# Altium footprint library con-molex-micro-fit-3_0 (1).PCBLIB: 194 footprints (part 2 of 13)
Each footprint in its own frame and in the unit in brackets; x right, y up, seen from the top. Pads: shape width x height; smd on the part's side, far side on the other; paste and mask are expansions set on the pad; w line width, h text height; cw(c..) or ccw(c..) is an arc to the next point about the centre after c.
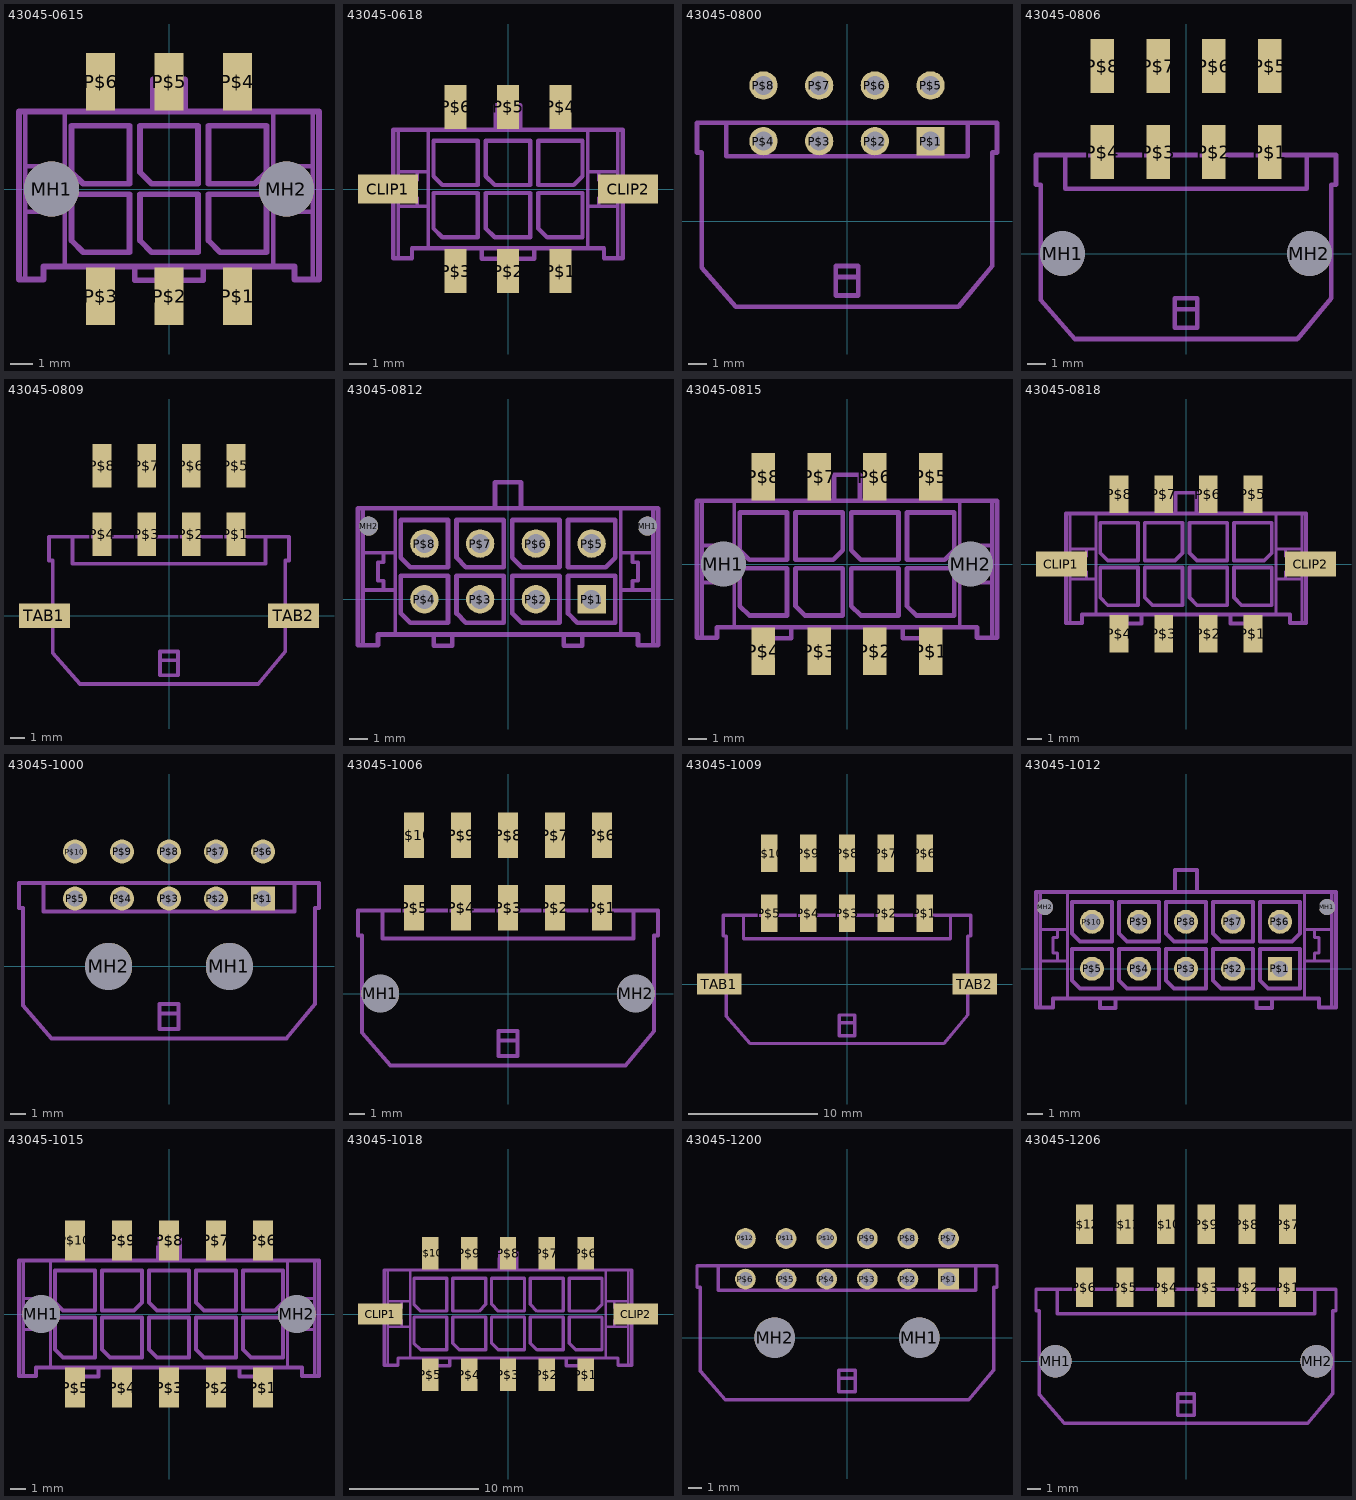
[diagram p1: the footprints below, top view; thin cyan lines are the x and y axes]

## 43045-0615 [mm]
pads (8):
  round 2.41 hole 2.41 unplated: MH1(-5.15,0) MH2(5.15,0)
  rect 1.27x2.54 smd: P$1(3,-4.7) P$2(0,-4.7) P$3(-3,-4.7) P$4(3,4.7) P$5(0,4.7) P$6(-3,4.7)
tPlace:
  lines w0.2: -6.3,-3.97 -6.3,-1 ; -6.3,3.4 -6.3,1 ; -4.57,-3.4 -4.57,-1 ; -4.57,3.4 -4.57,1 ; 4.57,-3.4 4.57,-1 ; 4.57,3.4 4.57,1 ; 6.3,-3.97 6.3,-1 ; 6.3,3.4 6.3,1 ; -6.3,-1 -6.3,1 ; -6.3,-1 -5.2,-1 ; -6.3,1 -5.2,1 ; -5.2,-1 -4.57,-1 ; -5.2,-1 -5.2,-0.5 -5.5,-0.5 -5.5,0.5 -5.2,0.5 -5.2,1 ; -5.2,1 -4.57,1 ; -4.57,-1 -4.57,1 ; 4.57,-1 4.57,1 ; 4.57,-1 5.2,-1 ; 4.57,1 5.2,1 ; 5.2,-1 6.3,-1 ; 5.2,-1 5.2,-0.5 5.5,-0.5 5.5,0.5 5.2,0.5 5.2,1 ; 5.2,1 6.3,1 ; 6.3,-1 6.3,1
  lines w0.254: -1.5,-3.4 -0.5,-3.4 ; -1.5,-3.4 -4.57,-3.4 -5.5,-3.4 -5.5,-3.97 -6.3,-3.97 -6.575,-3.97 -6.575,3.4 -6.3,3.4 -4.57,3.4 -0.7,3.4 ; -1.5,-3.4 -1.5,-4 -0.5,-4 -0.5,-3.4 ; -0.7,3.4 0.7,3.4 ; -0.7,3.4 -0.7,4.8 0.7,4.8 0.7,3.4 ; -0.5,-3.4 0.5,-3.4 ; 0.5,-3.4 1.5,-3.4 ; 0.5,-3.4 0.5,-4 1.5,-4 1.5,-3.4 ; 0.7,3.4 4.57,3.4 6.3,3.4 6.575,3.4 6.575,-3.97 6.3,-3.97 5.5,-3.97 5.5,-3.4 4.57,-3.4 1.5,-3.4 ; -4.27,-2.262 -4.27,-0.23 -1.73,-0.23 -1.73,-2.77 -3.762,-2.77 -4.27,-2.262 ; -4.27,0.738 -4.27,2.77 -1.73,2.77 -1.73,0.23 -3.762,0.23 -4.27,0.738 ; -1.27,-2.262 -1.27,-0.23 1.27,-0.23 1.27,-2.77 -0.762,-2.77 -1.27,-2.262 ; -1.27,0.738 -1.27,2.77 1.27,2.77 1.27,0.23 -0.762,0.23 -1.27,0.738 ; 1.73,-2.262 1.73,-0.23 4.27,-0.23 4.27,-2.77 2.238,-2.77 1.73,-2.262
bPlace:
  lines w0.254: 1.73,0.23 1.73,2.77 4.27,2.77 4.27,0.738 3.762,0.23 1.73,0.23

## 43045-0618 [mm]
pads (8):
  rect 3.43x1.65 smd: CLIP1(-6.88,0) CLIP2(6.88,0)
  rect 1.27x2.54 smd: P$1(3,-4.7) P$2(0,-4.7) P$3(-3,-4.7) P$4(3,4.7) P$5(0,4.7) P$6(-3,4.7)
tPlace:
  lines w0.2: -6.3,-3.97 -6.3,-1 ; -6.3,3.4 -6.3,1 ; -4.57,-3.4 -4.57,-1 ; -4.57,3.4 -4.57,1 ; 4.57,-3.4 4.57,-1 ; 4.57,3.4 4.57,1 ; 6.3,-3.97 6.3,-1 ; 6.3,3.4 6.3,1 ; -6.3,-1 -6.3,1 ; -6.3,-1 -5.2,-1 ; -6.3,1 -5.2,1 ; -5.2,-1 -4.57,-1 ; -5.2,-1 -5.2,-0.5 -5.5,-0.5 -5.5,0.5 -5.2,0.5 -5.2,1 ; -5.2,1 -4.57,1 ; -4.57,-1 -4.57,1 ; 4.57,-1 4.57,1 ; 4.57,-1 5.2,-1 ; 4.57,1 5.2,1 ; 5.2,-1 6.3,-1 ; 5.2,-1 5.2,-0.5 5.5,-0.5 5.5,0.5 5.2,0.5 5.2,1 ; 5.2,1 6.3,1 ; 6.3,-1 6.3,1
  lines w0.254: -1.5,-3.4 -0.5,-3.4 ; -1.5,-3.4 -4.57,-3.4 -5.5,-3.4 -5.5,-3.97 -6.3,-3.97 -6.575,-3.97 -6.575,3.4 -6.3,3.4 -4.57,3.4 -0.7,3.4 ; -1.5,-3.4 -1.5,-4 -0.5,-4 -0.5,-3.4 ; -0.7,3.4 0.7,3.4 ; -0.7,3.4 -0.7,4.8 0.7,4.8 0.7,3.4 ; -0.5,-3.4 0.5,-3.4 ; 0.5,-3.4 1.5,-3.4 ; 0.5,-3.4 0.5,-4 1.5,-4 1.5,-3.4 ; 0.7,3.4 4.57,3.4 6.3,3.4 6.575,3.4 6.575,-3.97 6.3,-3.97 5.5,-3.97 5.5,-3.4 4.57,-3.4 1.5,-3.4 ; -4.27,-2.262 -4.27,-0.23 -1.73,-0.23 -1.73,-2.77 -3.762,-2.77 -4.27,-2.262 ; -4.27,0.738 -4.27,2.77 -1.73,2.77 -1.73,0.23 -3.762,0.23 -4.27,0.738 ; -1.27,-2.262 -1.27,-0.23 1.27,-0.23 1.27,-2.77 -0.762,-2.77 -1.27,-2.262 ; -1.27,0.738 -1.27,2.77 1.27,2.77 1.27,0.23 -0.762,0.23 -1.27,0.738 ; 1.73,-2.262 1.73,-0.23 4.27,-0.23 4.27,-2.77 2.238,-2.77 1.73,-2.262
bPlace:
  lines w0.254: 1.73,0.23 1.73,2.77 4.27,2.77 4.27,0.738 3.762,0.23 1.73,0.23

## 43045-0800 [mm]
pads (8):
  rect 1.53x1.53 / inner round 1.414 / far side rect 1.53x1.53 hole 1.02: P$1(4.5,4.32)
  round 1.53 hole 1.02: P$2(1.5,4.32) P$3(-1.5,4.32) P$4(-4.5,4.32) P$5(4.5,7.32) P$6(1.5,7.32) P$7(-1.5,7.32) P$8(-4.5,7.32)
bPlace:
  lines w0.127: -6.5,5.31 -4.825,5.31
  lines w0.254: -6.5,5.31 -8.08,5.31 -8.08,3.71 -7.825,3.71 -7.825,-2.5 -6,-4.6 6,-4.6 7.825,-2.4 7.825,3.71 8.08,3.71 8.08,5.31 6.5,5.31 ; -6.5,5.31 6.5,5.31 ; -6.5,5.31 -6.5,3.5 6.5,3.5 6.5,5.31 ; -0.6,-3 -0.6,-4 0.6,-4 0.6,-3 ; -0.6,-3 -0.6,-2.4 0.6,-2.4 0.6,-3 ; -0.6,-3 0.6,-3

## 43045-0806 [mm]
pads (10):
  round 2.41 hole 2.41 unplated: MH1(-6.65,0) MH2(6.65,0)
  rect 1.27x2.92 smd: P$1(4.5,5.47) P$2(1.5,5.47) P$3(-1.5,5.47) P$4(-4.5,5.47) P$5(4.5,10.1) P$6(1.5,10.1) P$7(-1.5,10.1) P$8(-4.5,10.1)
tPlace:
  lines w0.127: -4.83,5.31 -6.5,5.31 -4.825,5.31
  lines w0.254: -6.5,5.31 -8.08,5.31 -8.08,3.71 -7.825,3.71 -7.825,-2.5 -6,-4.6 6,-4.6 7.825,-2.4 7.825,3.71 8.08,3.71 8.08,5.31 6.5,5.31 ; -6.5,5.31 6.5,5.31 ; -6.5,5.31 -6.5,3.5 6.5,3.5 6.5,5.31 ; -0.6,-3 -0.6,-4 0.6,-4 0.6,-3 ; -0.6,-3 -0.6,-2.4 0.6,-2.4 0.6,-3 ; -0.6,-3 0.6,-3

## 43045-0809 [mm]
pads (10):
  rect 1.27x2.92 smd: P$1(4.5,5.47) P$2(1.5,5.47) P$3(-1.5,5.47) P$4(-4.5,5.47) P$5(4.5,10.1) P$6(1.5,10.1) P$7(-1.5,10.1) P$8(-4.5,10.1)
  rect 3.43x1.65 smd: TAB1(-8.38,0) TAB2(8.38,0)
tPlace:
  lines w0.127: -4.83,5.31 -6.5,5.31 -4.825,5.31
  lines w0.254: -6.5,5.31 -8.08,5.31 -8.08,3.71 -7.825,3.71 -7.825,-2.5 -6,-4.6 6,-4.6 7.825,-2.4 7.825,3.71 8.08,3.71 8.08,5.31 6.5,5.31 ; -6.5,5.31 6.5,5.31 ; -6.5,5.31 -6.5,3.5 6.5,3.5 6.5,5.31 ; -0.6,-3 -0.6,-4 0.6,-4 0.6,-3 ; -0.6,-3 -0.6,-2.4 0.6,-2.4 0.6,-3 ; -0.6,-3 0.6,-3

## 43045-0812 [mm]
pads (10):
  round 1.02 hole 1.02 unplated: MH1(7.5,3.94) MH2(-7.5,3.94)
  rect 1.53x1.53 / inner round 1.414 / far side rect 1.53x1.53 hole 1.02: P$1(4.5,0)
  round 1.53 hole 1.02: P$2(1.5,0) P$3(-1.5,0) P$4(-4.5,0) P$5(4.5,3) P$6(1.5,3) P$7(-1.5,3) P$8(-4.5,3)
tPlace:
  lines w0.2: -7.8,-2.47 -7.8,0.5 ; -7.8,4.9 -7.8,2.5 ; -6.07,-1.9 -6.07,0.5 ; -6.07,4.9 -6.07,2.5 ; 6.07,-1.9 6.07,0.5 ; 6.07,4.9 6.07,2.5 ; 7.8,-2.47 7.8,0.5 ; 7.8,4.9 7.8,2.5 ; -7.8,0.5 -7.8,2.5 ; -7.8,0.5 -6.7,0.5 ; -7.8,2.5 -6.7,2.5 ; -6.7,0.5 -6.07,0.5 ; -6.7,0.5 -6.7,1 -7,1 -7,2 -6.7,2 -6.7,2.5 ; -6.7,2.5 -6.07,2.5 ; -6.07,0.5 -6.07,2.5 ; 6.07,0.5 6.07,2.5 ; 6.07,0.5 6.7,0.5 ; 6.07,2.5 6.7,2.5 ; 6.7,0.5 7.8,0.5 ; 6.7,0.5 6.7,1 7,1 7,2 6.7,2 6.7,2.5 ; 6.7,2.5 7.8,2.5 ; 7.8,0.5 7.8,2.5
  lines w0.254: -4,-1.9 -3,-1.9 ; -4,-1.9 -6.07,-1.9 -7,-1.9 -7,-2.47 -7.8,-2.47 -8.075,-2.47 -8.075,4.9 -7.8,4.9 -6.07,4.9 -0.7,4.9 ; -4,-1.9 -4,-2.5 -3,-2.5 -3,-1.9 ; -3,-1.9 3,-1.9 ; -0.7,4.9 0.7,4.9 ; -0.7,4.9 -0.7,6.3 0.7,6.3 0.7,4.9 ; 0.7,4.9 6.07,4.9 7.8,4.9 8.075,4.9 8.075,-2.47 7.8,-2.47 7,-2.47 7,-1.9 6.07,-1.9 4,-1.9 ; 3,-1.9 4,-1.9 ; 3,-1.9 3,-2.5 4,-2.5 4,-1.9 ; -5.77,-0.762 -5.77,1.27 -3.23,1.27 -3.23,-1.27 -5.262,-1.27 -5.77,-0.762 ; -5.77,2.238 -5.77,4.27 -3.23,4.27 -3.23,1.73 -5.262,1.73 -5.77,2.238 ; -2.77,-0.762 -2.77,1.27 -0.23,1.27 -0.23,-1.27 -2.262,-1.27 -2.77,-0.762 ; -2.77,2.238 -2.77,4.27 -0.23,4.27 -0.23,1.73 -2.262,1.73 -2.77,2.238 ; 0.23,-0.762 0.23,1.27 2.77,1.27 2.77,-1.27 0.738,-1.27 0.23,-0.762 ; 0.23,2.238 0.23,4.27 2.77,4.27 2.77,1.73 0.738,1.73 0.23,2.238 ; 3.23,-0.762 3.23,1.27 5.77,1.27 5.77,-1.27 3.738,-1.27 3.23,-0.762
bPlace:
  lines w0.254: 3.23,1.73 3.23,4.27 5.77,4.27 5.77,2.238 5.262,1.73 3.23,1.73

## 43045-0815 [mm]
pads (10):
  round 2.41 hole 2.41 unplated: MH1(-6.65,0) MH2(6.65,0)
  rect 1.27x2.54 smd: P$1(4.5,-4.7) P$2(1.5,-4.7) P$3(-1.5,-4.7) P$4(-4.5,-4.7) P$5(4.5,4.7) P$6(1.5,4.7) P$7(-1.5,4.7) P$8(-4.5,4.7)
tPlace:
  lines w0.2: -7.8,-3.97 -7.8,-1 ; -7.8,3.4 -7.8,1 ; -6.07,-3.4 -6.07,-1 ; -6.07,3.4 -6.07,1 ; 6.07,-3.4 6.07,-1 ; 6.07,3.4 6.07,1 ; 7.8,-3.97 7.8,-1 ; 7.8,3.4 7.8,1 ; -7.8,-1 -7.8,1 ; -7.8,-1 -6.7,-1 ; -7.8,1 -6.7,1 ; -6.7,-1 -6.07,-1 ; -6.7,-1 -6.7,-0.5 -7,-0.5 -7,0.5 -6.7,0.5 -6.7,1 ; -6.7,1 -6.07,1 ; -6.07,-1 -6.07,1 ; 6.07,-1 6.07,1 ; 6.07,-1 6.7,-1 ; 6.07,1 6.7,1 ; 6.7,-1 7.8,-1 ; 6.7,-1 6.7,-0.5 7,-0.5 7,0.5 6.7,0.5 6.7,1 ; 6.7,1 7.8,1 ; 7.8,-1 7.8,1
  lines w0.254: -4,-3.4 -3,-3.4 ; -4,-3.4 -6.07,-3.4 -7,-3.4 -7,-3.97 -7.8,-3.97 -8.075,-3.97 -8.075,3.4 -7.8,3.4 -6.07,3.4 -0.7,3.4 ; -4,-3.4 -4,-4 -3,-4 -3,-3.4 ; -3,-3.4 3,-3.4 ; -0.7,3.4 0.7,3.4 ; -0.7,3.4 -0.7,4.8 0.7,4.8 0.7,3.4 ; 0.7,3.4 6.07,3.4 7.8,3.4 8.075,3.4 8.075,-3.97 7.8,-3.97 7,-3.97 7,-3.4 6.07,-3.4 4,-3.4 ; 3,-3.4 4,-3.4 ; 3,-3.4 3,-4 4,-4 4,-3.4 ; -5.77,-2.262 -5.77,-0.23 -3.23,-0.23 -3.23,-2.77 -5.262,-2.77 -5.77,-2.262 ; -5.77,0.738 -5.77,2.77 -3.23,2.77 -3.23,0.23 -5.262,0.23 -5.77,0.738 ; -2.77,-2.262 -2.77,-0.23 -0.23,-0.23 -0.23,-2.77 -2.262,-2.77 -2.77,-2.262 ; 0.23,-2.262 0.23,-0.23 2.77,-0.23 2.77,-2.77 0.738,-2.77 0.23,-2.262 ; 0.23,0.738 0.23,2.77 2.77,2.77 2.77,0.23 0.738,0.23 0.23,0.738 ; 3.23,-2.262 3.23,-0.23 5.77,-0.23 5.77,-2.77 3.738,-2.77 3.23,-2.262
bPlace:
  lines w0.254: -2.77,0.23 -2.77,2.77 -0.23,2.77 -0.23,0.738 -0.738,0.23 -2.77,0.23 ; 3.23,0.23 3.23,2.77 5.77,2.77 5.77,0.738 5.262,0.23 3.23,0.23

## 43045-0818 [mm]
pads (10):
  rect 3.43x1.65 smd: CLIP1(-8.38,0) CLIP2(8.38,0)
  rect 1.27x2.54 smd: P$1(4.5,-4.7) P$2(1.5,-4.7) P$3(-1.5,-4.7) P$4(-4.5,-4.7) P$5(4.5,4.7) P$6(1.5,4.7) P$7(-1.5,4.7) P$8(-4.5,4.7)
tPlace:
  lines w0.2: -7.8,-3.97 -7.8,-1 ; -7.8,3.4 -7.8,1 ; -6.07,-3.4 -6.07,-1 ; -6.07,3.4 -6.07,1 ; 6.07,-3.4 6.07,-1 ; 6.07,3.4 6.07,1 ; 7.8,-3.97 7.8,-1 ; 7.8,3.4 7.8,1 ; -7.8,-1 -7.8,1 ; -7.8,-1 -6.7,-1 ; -7.8,1 -6.7,1 ; -6.7,-1 -6.07,-1 ; -6.7,-1 -6.7,-0.5 -7,-0.5 -7,0.5 -6.7,0.5 -6.7,1 ; -6.7,1 -6.07,1 ; -6.07,-1 -6.07,1 ; 6.07,-1 6.07,1 ; 6.07,-1 6.7,-1 ; 6.07,1 6.7,1 ; 6.7,-1 7.8,-1 ; 6.7,-1 6.7,-0.5 7,-0.5 7,0.5 6.7,0.5 6.7,1 ; 6.7,1 7.8,1 ; 7.8,-1 7.8,1
  lines w0.254: -4,-3.4 -3,-3.4 ; -4,-3.4 -6.07,-3.4 -7,-3.4 -7,-3.97 -7.8,-3.97 -8.075,-3.97 -8.075,3.4 -7.8,3.4 -6.07,3.4 -0.7,3.4 ; -4,-3.4 -4,-4 -3,-4 -3,-3.4 ; -3,-3.4 3,-3.4 ; -0.7,3.4 0.7,3.4 ; -0.7,3.4 -0.7,4.8 0.7,4.8 0.7,3.4 ; 0.7,3.4 6.07,3.4 7.8,3.4 8.075,3.4 8.075,-3.97 7.8,-3.97 7,-3.97 7,-3.4 6.07,-3.4 4,-3.4 ; 3,-3.4 4,-3.4 ; 3,-3.4 3,-4 4,-4 4,-3.4 ; -5.77,-2.262 -5.77,-0.23 -3.23,-0.23 -3.23,-2.77 -5.262,-2.77 -5.77,-2.262 ; -5.77,0.738 -5.77,2.77 -3.23,2.77 -3.23,0.23 -5.262,0.23 -5.77,0.738 ; -2.77,-2.262 -2.77,-0.23 -0.23,-0.23 -0.23,-2.77 -2.262,-2.77 -2.77,-2.262 ; 0.23,-2.262 0.23,-0.23 2.77,-0.23 2.77,-2.77 0.738,-2.77 0.23,-2.262 ; 0.23,0.738 0.23,2.77 2.77,2.77 2.77,0.23 0.738,0.23 0.23,0.738 ; 3.23,-2.262 3.23,-0.23 5.77,-0.23 5.77,-2.77 3.738,-2.77 3.23,-2.262
bPlace:
  lines w0.254: -2.77,0.23 -2.77,2.77 -0.23,2.77 -0.23,0.738 -0.738,0.23 -2.77,0.23 ; 3.23,0.23 3.23,2.77 5.77,2.77 5.77,0.738 5.262,0.23 3.23,0.23

## 43045-1000 [mm]
pads (12):
  round 3 hole 3 unplated: MH1(3.85,0) MH2(-3.85,0)
  rect 1.53x1.53 / inner round 1.414 / far side rect 1.53x1.53 hole 1.02: P$1(6,4.32)
  round 1.53 hole 1.02: P$2(3,4.32) P$3(0,4.32) P$4(-3,4.32) P$5(-6,4.32) P$6(6,7.32) P$7(3,7.32) P$8(0,7.32) P$9(-3,7.32) P$10(-6,7.32)
tPlace:
  lines w0.127: -4.83,5.31 -8,5.31 -4.825,5.31
  lines w0.254: -8,5.31 -9.575,5.31 -9.575,3.71 -9.325,3.71 -9.325,-2.5 -7.5,-4.6 7.5,-4.6 9.325,-2.4 9.325,3.71 9.575,3.71 9.575,5.31 8,5.31 ; -8,5.31 8,5.31 ; -8,5.31 -8,3.5 8,3.5 8,5.31 ; -0.6,-3 -0.6,-4 0.6,-4 0.6,-3 ; -0.6,-3 -0.6,-2.4 0.6,-2.4 0.6,-3 ; -0.6,-3 0.6,-3

## 43045-1006 [mm]
pads (12):
  round 2.41 hole 2.41 unplated: MH1(-8.15,0) MH2(8.15,0)
  rect 1.27x2.92 smd: P$1(6,5.47) P$2(3,5.47) P$3(0,5.47) P$4(-3,5.47) P$5(-6,5.47) P$6(6,10.1) P$7(3,10.1) P$8(0,10.1) P$9(-3,10.1) P$10(-6,10.1)
tPlace:
  lines w0.127: -4.83,5.31 -8,5.31 -4.825,5.31
  lines w0.254: -8,5.31 -9.575,5.31 -9.575,3.71 -9.325,3.71 -9.325,-2.5 -7.5,-4.6 7.5,-4.6 9.325,-2.4 9.325,3.71 9.575,3.71 9.575,5.31 8,5.31 ; -8,5.31 8,5.31 ; -8,5.31 -8,3.5 8,3.5 8,5.31 ; -0.6,-3 -0.6,-4 0.6,-4 0.6,-3 ; -0.6,-3 -0.6,-2.4 0.6,-2.4 0.6,-3 ; -0.6,-3 0.6,-3

## 43045-1009 [mm]
pads (12):
  rect 1.27x2.92 smd: P$1(6,5.47) P$2(3,5.47) P$3(0,5.47) P$4(-3,5.47) P$5(-6,5.47) P$6(6,10.1) P$7(3,10.1) P$8(0,10.1) P$9(-3,10.1) P$10(-6,10.1)
  rect 3.43x1.65 smd: TAB1(-9.88,0) TAB2(9.88,0)
tPlace:
  lines w0.127: -4.83,5.31 -8,5.31 -4.825,5.31
  lines w0.254: -8,5.31 -9.575,5.31 -9.575,3.71 -9.325,3.71 -9.325,-2.5 -7.5,-4.6 7.5,-4.6 9.325,-2.4 9.325,3.71 9.575,3.71 9.575,5.31 8,5.31 ; -8,5.31 8,5.31 ; -8,5.31 -8,3.5 8,3.5 8,5.31 ; -0.6,-3 -0.6,-4 0.6,-4 0.6,-3 ; -0.6,-3 -0.6,-2.4 0.6,-2.4 0.6,-3 ; -0.6,-3 0.6,-3

## 43045-1012 [mm]
pads (12):
  round 1.02 hole 1.02 unplated: MH1(9,3.94) MH2(-9,3.94)
  rect 1.53x1.53 / inner round 1.414 / far side rect 1.53x1.53 hole 1.02: P$1(6,0)
  round 1.53 hole 1.02: P$2(3,0) P$3(0,0) P$4(-3,0) P$5(-6,0) P$6(6,3) P$7(3,3) P$8(0,3) P$9(-3,3) P$10(-6,3)
tPlace:
  lines w0.2: -9.3,-2.47 -9.3,0.5 ; -9.3,4.9 -9.3,2.5 ; -7.57,-1.9 -7.57,0.5 ; -7.57,4.9 -7.57,2.5 ; 7.57,-1.9 7.57,0.5 ; 7.57,4.9 7.57,2.5 ; 9.3,-2.47 9.3,0.5 ; 9.3,4.9 9.3,2.5 ; -9.3,0.5 -9.3,2.5 ; -9.3,0.5 -8.2,0.5 ; -9.3,2.5 -8.2,2.5 ; -8.2,0.5 -7.57,0.5 ; -8.2,0.5 -8.2,1 -8.5,1 -8.5,2 -8.2,2 -8.2,2.5 ; -8.2,2.5 -7.57,2.5 ; -7.57,0.5 -7.57,2.5 ; 7.57,0.5 7.57,2.5 ; 7.57,0.5 8.2,0.5 ; 7.57,2.5 8.2,2.5 ; 8.2,0.5 9.3,0.5 ; 8.2,0.5 8.2,1 8.5,1 8.5,2 8.2,2 8.2,2.5 ; 8.2,2.5 9.3,2.5 ; 9.3,0.5 9.3,2.5
  lines w0.254: -5.5,-1.9 -4.5,-1.9 ; -5.5,-1.9 -7.57,-1.9 -8.5,-1.9 -8.5,-2.47 -9.3,-2.47 -9.575,-2.47 -9.575,4.9 -9.3,4.9 -7.57,4.9 -0.7,4.9 ; -5.5,-1.9 -5.5,-2.5 -4.5,-2.5 -4.5,-1.9 ; -4.5,-1.9 4.5,-1.9 ; -0.7,4.9 0.7,4.9 ; -0.7,4.9 -0.7,6.3 0.7,6.3 0.7,4.9 ; 0.7,4.9 7.57,4.9 9.3,4.9 9.575,4.9 9.575,-2.47 9.3,-2.47 8.5,-2.47 8.5,-1.9 7.57,-1.9 5.5,-1.9 ; 4.5,-1.9 5.5,-1.9 ; 4.5,-1.9 4.5,-2.5 5.5,-2.5 5.5,-1.9 ; -7.27,-0.762 -7.27,1.27 -4.73,1.27 -4.73,-1.27 -6.762,-1.27 -7.27,-0.762 ; -7.27,2.238 -7.27,4.27 -4.73,4.27 -4.73,1.73 -6.762,1.73 -7.27,2.238 ; -4.27,-0.762 -4.27,1.27 -1.73,1.27 -1.73,-1.27 -3.762,-1.27 -4.27,-0.762 ; -4.27,2.238 -4.27,4.27 -1.73,4.27 -1.73,1.73 -3.762,1.73 -4.27,2.238 ; -1.27,-0.762 -1.27,1.27 1.27,1.27 1.27,-1.27 -0.762,-1.27 -1.27,-0.762 ; -1.27,2.238 -1.27,4.27 1.27,4.27 1.27,1.73 -0.762,1.73 -1.27,2.238 ; 1.73,-0.762 1.73,1.27 4.27,1.27 4.27,-1.27 2.238,-1.27 1.73,-0.762 ; 1.73,2.238 1.73,4.27 4.27,4.27 4.27,1.73 2.238,1.73 1.73,2.238 ; 4.73,-0.762 4.73,1.27 7.27,1.27 7.27,-1.27 5.238,-1.27 4.73,-0.762
bPlace:
  lines w0.254: 4.73,1.73 4.73,4.27 7.27,4.27 7.27,2.238 6.762,1.73 4.73,1.73

## 43045-1015 [mm]
pads (12):
  round 2.41 hole 2.41 unplated: MH1(-8.15,0) MH2(8.15,0)
  rect 1.27x2.54 smd: P$1(6,-4.7) P$2(3,-4.7) P$3(0,-4.7) P$4(-3,-4.7) P$5(-6,-4.7) P$6(6,4.7) P$7(3,4.7) P$8(0,4.7) P$9(-3,4.7) P$10(-6,4.7)
tPlace:
  lines w0.2: -9.3,-3.97 -9.3,-1 ; -9.3,3.4 -9.3,1 ; -7.57,-3.4 -7.57,-1 ; -7.57,3.4 -7.57,1 ; 7.57,-3.4 7.57,-1 ; 7.57,3.4 7.57,1 ; 9.3,-3.97 9.3,-1 ; 9.3,3.4 9.3,1 ; -9.3,-1 -9.3,1 ; -9.3,-1 -8.2,-1 ; -9.3,1 -8.2,1 ; -8.2,-1 -7.57,-1 ; -8.2,-1 -8.2,-0.5 -8.5,-0.5 -8.5,0.5 -8.2,0.5 -8.2,1 ; -8.2,1 -7.57,1 ; -7.57,-1 -7.57,1 ; 7.57,-1 7.57,1 ; 7.57,-1 8.2,-1 ; 7.57,1 8.2,1 ; 8.2,-1 9.3,-1 ; 8.2,-1 8.2,-0.5 8.5,-0.5 8.5,0.5 8.2,0.5 8.2,1 ; 8.2,1 9.3,1 ; 9.3,-1 9.3,1
  lines w0.254: -5.5,-3.4 -4.5,-3.4 ; -5.5,-3.4 -7.57,-3.4 -8.5,-3.4 -8.5,-3.97 -9.3,-3.97 -9.575,-3.97 -9.575,3.4 -9.3,3.4 -7.57,3.4 -0.7,3.4 ; -5.5,-3.4 -5.5,-4 -4.5,-4 -4.5,-3.4 ; -4.5,-3.4 4.5,-3.4 ; -0.7,3.4 0.7,3.4 ; -0.7,3.4 -0.7,4.8 0.7,4.8 0.7,3.4 ; 0.7,3.4 7.57,3.4 9.3,3.4 9.575,3.4 9.575,-3.97 9.3,-3.97 8.5,-3.97 8.5,-3.4 7.57,-3.4 5.5,-3.4 ; 4.5,-3.4 5.5,-3.4 ; 4.5,-3.4 4.5,-4 5.5,-4 5.5,-3.4 ; -7.27,-2.262 -7.27,-0.23 -4.73,-0.23 -4.73,-2.77 -6.762,-2.77 -7.27,-2.262 ; -7.27,0.738 -7.27,2.77 -4.73,2.77 -4.73,0.23 -6.762,0.23 -7.27,0.738 ; -4.27,-2.262 -4.27,-0.23 -1.73,-0.23 -1.73,-2.77 -3.762,-2.77 -4.27,-2.262 ; -1.27,-2.262 -1.27,-0.23 1.27,-0.23 1.27,-2.77 -0.762,-2.77 -1.27,-2.262 ; -1.27,0.738 -1.27,2.77 1.27,2.77 1.27,0.23 -0.762,0.23 -1.27,0.738 ; 1.73,-2.262 1.73,-0.23 4.27,-0.23 4.27,-2.77 2.238,-2.77 1.73,-2.262 ; 1.73,0.738 1.73,2.77 4.27,2.77 4.27,0.23 2.238,0.23 1.73,0.738 ; 4.73,-2.262 4.73,-0.23 7.27,-0.23 7.27,-2.77 5.238,-2.77 4.73,-2.262
bPlace:
  lines w0.254: -4.27,0.23 -4.27,2.77 -1.73,2.77 -1.73,0.738 -2.238,0.23 -4.27,0.23 ; 4.73,0.23 4.73,2.77 7.27,2.77 7.27,0.738 6.762,0.23 4.73,0.23

## 43045-1018 [mm]
pads (12):
  rect 3.43x1.65 smd: CLIP1(-9.88,0) CLIP2(9.88,0)
  rect 1.27x2.54 smd: P$1(6,-4.7) P$2(3,-4.7) P$3(0,-4.7) P$4(-3,-4.7) P$5(-6,-4.7) P$6(6,4.7) P$7(3,4.7) P$8(0,4.7) P$9(-3,4.7) P$10(-6,4.7)
tPlace:
  lines w0.2: -9.3,-3.97 -9.3,-1 ; -9.3,3.4 -9.3,1 ; -7.57,-3.4 -7.57,-1 ; -7.57,3.4 -7.57,1 ; 7.57,-3.4 7.57,-1 ; 7.57,3.4 7.57,1 ; 9.3,-3.97 9.3,-1 ; 9.3,3.4 9.3,1 ; -9.3,-1 -9.3,1 ; -9.3,-1 -8.2,-1 ; -9.3,1 -8.2,1 ; -8.2,-1 -7.57,-1 ; -8.2,-1 -8.2,-0.5 -8.5,-0.5 -8.5,0.5 -8.2,0.5 -8.2,1 ; -8.2,1 -7.57,1 ; -7.57,-1 -7.57,1 ; 7.57,-1 7.57,1 ; 7.57,-1 8.2,-1 ; 7.57,1 8.2,1 ; 8.2,-1 9.3,-1 ; 8.2,-1 8.2,-0.5 8.5,-0.5 8.5,0.5 8.2,0.5 8.2,1 ; 8.2,1 9.3,1 ; 9.3,-1 9.3,1
  lines w0.254: -5.5,-3.4 -4.5,-3.4 ; -5.5,-3.4 -7.57,-3.4 -8.5,-3.4 -8.5,-3.97 -9.3,-3.97 -9.575,-3.97 -9.575,3.4 -9.3,3.4 -7.57,3.4 -0.7,3.4 ; -5.5,-3.4 -5.5,-4 -4.5,-4 -4.5,-3.4 ; -4.5,-3.4 4.5,-3.4 ; -0.7,3.4 0.7,3.4 ; -0.7,3.4 -0.7,4.8 0.7,4.8 0.7,3.4 ; 0.7,3.4 7.57,3.4 9.3,3.4 9.575,3.4 9.575,-3.97 9.3,-3.97 8.5,-3.97 8.5,-3.4 7.57,-3.4 5.5,-3.4 ; 4.5,-3.4 5.5,-3.4 ; 4.5,-3.4 4.5,-4 5.5,-4 5.5,-3.4 ; -7.27,-2.262 -7.27,-0.23 -4.73,-0.23 -4.73,-2.77 -6.762,-2.77 -7.27,-2.262 ; -7.27,0.738 -7.27,2.77 -4.73,2.77 -4.73,0.23 -6.762,0.23 -7.27,0.738 ; -4.27,-2.262 -4.27,-0.23 -1.73,-0.23 -1.73,-2.77 -3.762,-2.77 -4.27,-2.262 ; -1.27,-2.262 -1.27,-0.23 1.27,-0.23 1.27,-2.77 -0.762,-2.77 -1.27,-2.262 ; -1.27,0.738 -1.27,2.77 1.27,2.77 1.27,0.23 -0.762,0.23 -1.27,0.738 ; 1.73,-2.262 1.73,-0.23 4.27,-0.23 4.27,-2.77 2.238,-2.77 1.73,-2.262 ; 1.73,0.738 1.73,2.77 4.27,2.77 4.27,0.23 2.238,0.23 1.73,0.738 ; 4.73,-2.262 4.73,-0.23 7.27,-0.23 7.27,-2.77 5.238,-2.77 4.73,-2.262
bPlace:
  lines w0.254: -4.27,0.23 -4.27,2.77 -1.73,2.77 -1.73,0.738 -2.238,0.23 -4.27,0.23 ; 4.73,0.23 4.73,2.77 7.27,2.77 7.27,0.738 6.762,0.23 4.73,0.23

## 43045-1200 [mm]
pads (14):
  round 3 hole 3 unplated: MH1(5.35,0) MH2(-5.35,0)
  rect 1.53x1.53 / inner round 1.414 / far side rect 1.53x1.53 hole 1.02: P$1(7.5,4.32)
  round 1.53 hole 1.02: P$2(4.5,4.32) P$3(1.5,4.32) P$4(-1.5,4.32) P$5(-4.5,4.32) P$6(-7.5,4.32) P$7(7.5,7.32) P$8(4.5,7.32) P$9(1.5,7.32) P$10(-1.5,7.32) P$11(-4.5,7.32) P$12(-7.5,7.32)
tPlace:
  lines w0.127: -4.83,5.31 -9.5,5.31 -4.825,5.31
  lines w0.254: -9.5,5.31 -11.08,5.31 -11.08,3.71 -10.825,3.71 -10.825,-2.5 -9,-4.6 9,-4.6 10.825,-2.4 10.825,3.71 11.08,3.71 11.08,5.31 9.5,5.31 ; -9.5,5.31 9.5,5.31 ; -9.5,5.31 -9.5,3.5 9.5,3.5 9.5,5.31 ; -0.6,-3 -0.6,-4 0.6,-4 0.6,-3 ; -0.6,-3 -0.6,-2.4 0.6,-2.4 0.6,-3 ; -0.6,-3 0.6,-3

## 43045-1206 [mm]
pads (14):
  round 2.41 hole 2.41 unplated: MH1(-9.65,0) MH2(9.65,0)
  rect 1.27x2.92 smd: P$1(7.5,5.47) P$2(4.5,5.47) P$3(1.5,5.47) P$4(-1.5,5.47) P$5(-4.5,5.47) P$6(-7.5,5.47) P$7(7.5,10.1) P$8(4.5,10.1) P$9(1.5,10.1) P$10(-1.5,10.1) P$11(-4.5,10.1) P$12(-7.5,10.1)
tPlace:
  lines w0.127: -4.83,5.31 -9.5,5.31 -4.825,5.31
  lines w0.254: -9.5,5.31 -11.08,5.31 -11.08,3.71 -10.825,3.71 -10.825,-2.5 -9,-4.6 9,-4.6 10.825,-2.4 10.825,3.71 11.08,3.71 11.08,5.31 9.5,5.31 ; -9.5,5.31 9.5,5.31 ; -9.5,5.31 -9.5,3.5 9.5,3.5 9.5,5.31 ; -0.6,-3 -0.6,-4 0.6,-4 0.6,-3 ; -0.6,-3 -0.6,-2.4 0.6,-2.4 0.6,-3 ; -0.6,-3 0.6,-3